# EAGLE library part ON-TVS-ARRAY (library on-tvs-diode-array)
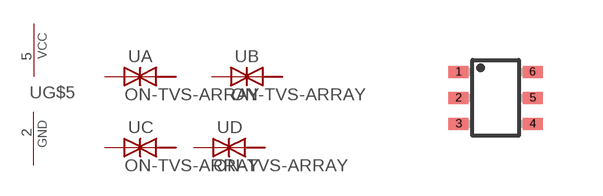
[diagram p0: symbol with the pads of SC-88; footprint SC-88]

Designator prefix -; gates A=TVS B=TVS C=TVS D=TVS G$5=PWRN

## ON-TVS-ARRAY  [SC-88]
1  A:1  pas
2  G$5:GND  pwr
3  B:1  pas
4  C:1  pas
5  G$5:VCC  pwr
6  D:1  pas

## Footprint SC-88 (pad centres in mm)
UMT6 Package EIAJ: SC-88 Source: http://www.rohm.com/products/databook/tr/pdf/umx1n.pdf
smd 0.5 x 0.3: 1 -0.925,0.65; 2 -0.925,0; 3 -0.925,-0.65; 4 0.925,-0.65; 5 0.925,0; 6 0.925,0.65